# Altium footprint library Componentes.PcbLib: 31 footprints (part 1 of 2)
Each footprint in its own frame and in the unit in brackets; x right, y up, seen from the top. Pads: shape width x height; smd on the part's side, far side on the other; paste and mask are expansions set on the pad; w line width, h text height; cw(c..) or ccw(c..) is an arc to the next point about the centre after c.
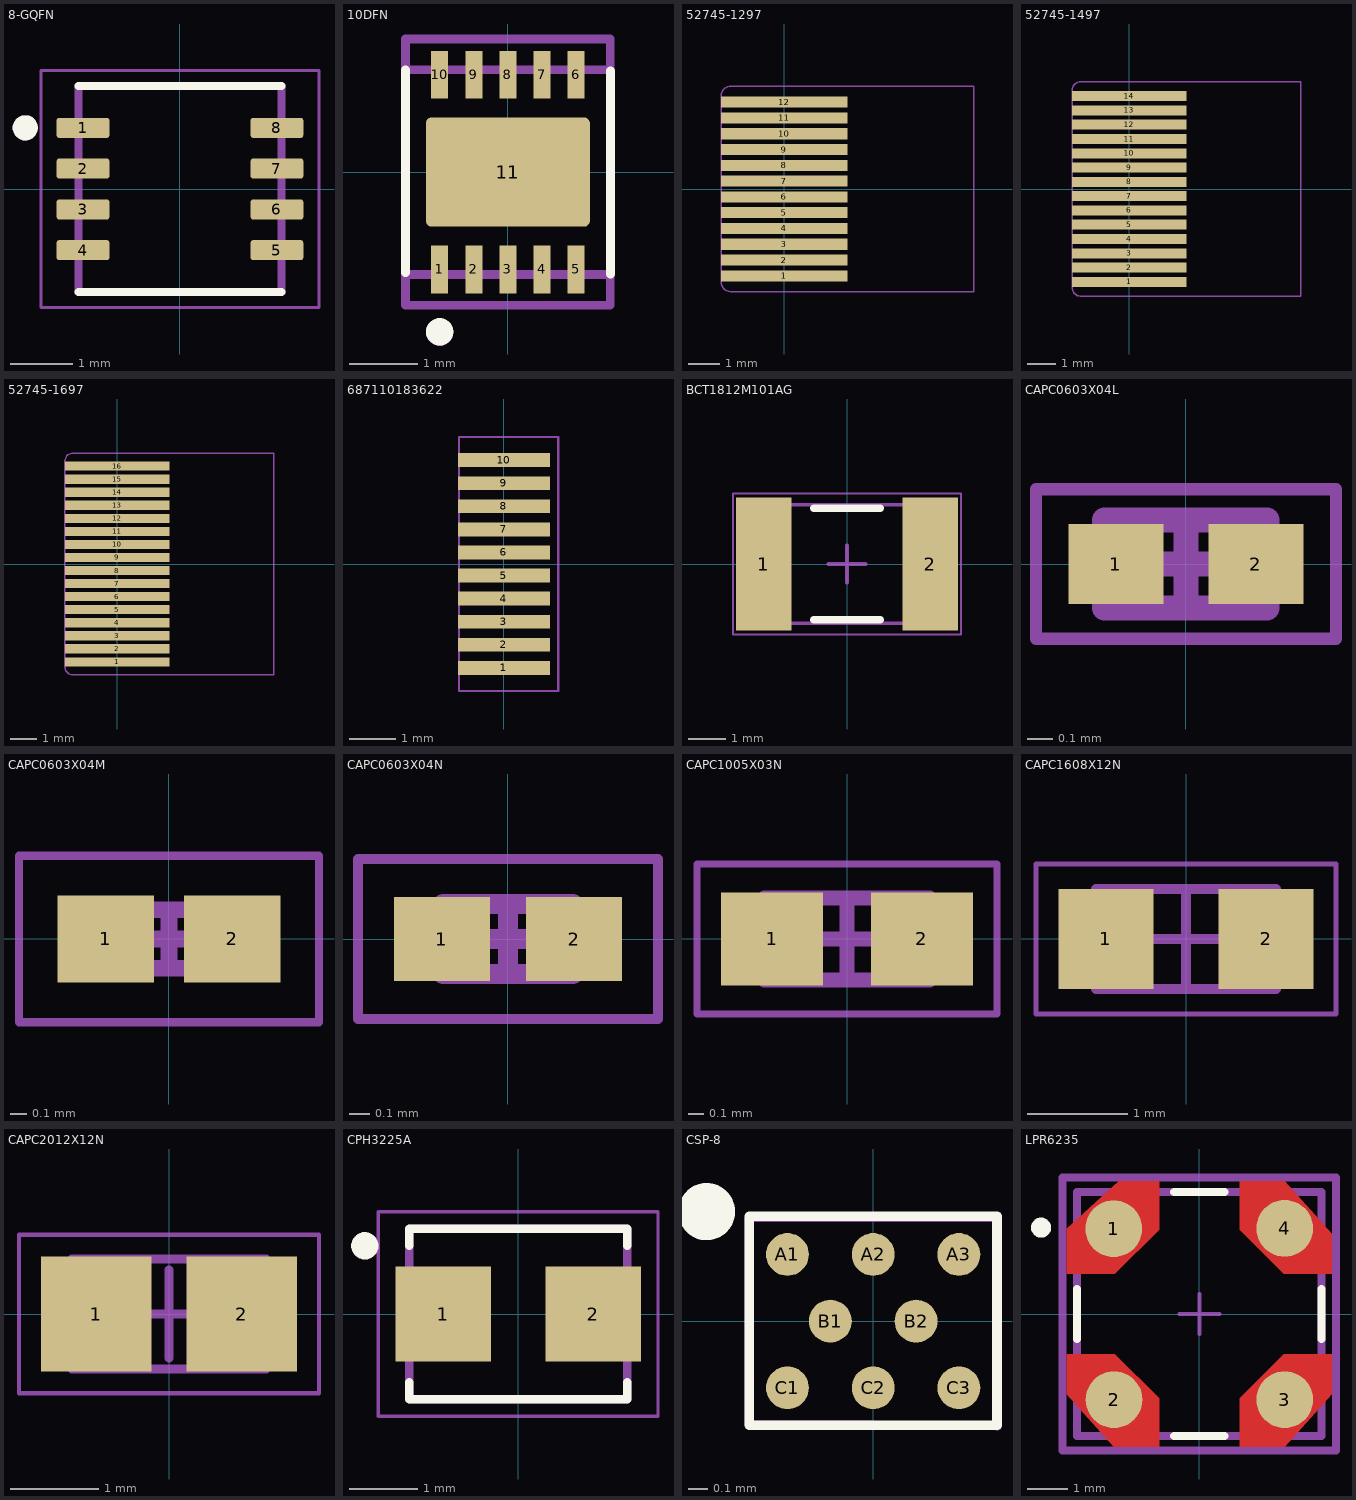
[diagram p0: the footprints below, top view; thin cyan lines are the x and y axes]

## 8-GQFN [mm] "8-pin GQFN (3.23 × 3.28 × 0.55 mm)"
pads (8):
  rrect25% 0.84x0.32 smd: 1(-1.545,0.975) 2(-1.545,0.325) 3(-1.545,-0.325) 4(-1.545,-0.975) 5(1.545,-0.975) 6(1.545,-0.325) 7(1.545,0.325) 8(1.545,0.975)
Top Overlay:
  circle w0.2: c-2.465,0.975 r0.1
  lines w0.127: -1.615,-1.64 1.615,-1.64 ; -1.615,1.64 1.615,1.64
Mechanical 13:
  circle w0.2: c-2.465,0.975 r0.1
  lines w0.127: -1.615,-1.64 1.615,-1.64 1.615,1.64 -1.615,1.64 -1.615,-1.64
Mechanical 15:
  lines w0.05: -2.215,-1.89 2.215,-1.89 2.215,1.89 -2.215,1.89 -2.215,-1.89
3D body "8-GQFN v8.step": height 0.6, standoff 0, extent -1.615,-1.69 1.615,1.69

## 10DFN [mm] "10-lead, 3mm × 3mm DFN"
height 0.75
pads (11):
  rect 0.25x0.7 smd: 1(-1,-1.425) 2(-0.5,-1.425) 3(0,-1.425) 4(0.5,-1.425) 5(1,-1.425) 6(1,1.425) 7(0.5,1.425) 8(0,1.425) 9(-0.5,1.425) 10(-1,1.425)
  rrect10% 2.4x1.6 smd: 11(0,0)
Top Overlay:
  circle w0.2: c-1,-2.34 r0.1
  lines w0.127: -1.5,-1.475 -1.5,1.5 ; 1.503,-1.494 1.503,1.481
Mechanical 13:
  circle w0.2: c-1,-2.345 r0.1
  lines w0.127: -1.5,-1.5 1.5,-1.5 1.5,1.5 -1.5,1.5 -1.5,-1.5
Mechanical 15:
  lines w0.127: -1.5,-1.95 1.5,-1.95 1.5,1.95 -1.5,1.95 -1.5,-1.95
3D body "MCRY12-DFN10.step": height 0.8, standoff 0, extent -1.5,-1.52 1.5,1.52

## 52745-1297 [mm] "Cable Side"
pads (12):
  rect 4x0.35 smd paste-2: 1(0,-2.75) 2(0,-2.25) 3(0,-1.75) 4(0,-1.25) 5(0,-0.75) 6(0,-0.25) 7(0,0.25) 8(0,0.75) 9(0,1.25) 10(0,1.75) 11(0,2.25) 12(0,2.75)
Top Solder:
  rectangle: -2.025,-3.25 2,3.275
Mechanical 15:
  lines w0.05: -2,2.941 -2,-2.941 ccw(c-1.7,-2.95) -1.709,-3.25 6,-3.25 6,3.25 -1.691,3.25 ccw(c-1.7,2.95) -2,2.959

## 52745-1497 [mm] "Cable Side"
pads (14):
  rect 4x0.35 smd paste-2: 1(0,-3.25) 2(0,-2.75) 3(0,-2.25) 4(0,-1.75) 5(0,-1.25) 6(0,-0.75) 7(0,-0.25) 8(0,0.25) 9(0,0.75) 10(0,1.25) 11(0,1.75) 12(0,2.25) 13(0,2.75) 14(0,3.25)
Top Solder:
  rectangle: -2.025,-3.75 2,3.75
Mechanical 15:
  lines w0.05: -2,-3.441 ccw(c-1.7,-3.45) -1.709,-3.75 6,-3.75 6,3.75 -1.691,3.75 ccw(c-1.7,3.45) -2,3.459 -2,-3.441

## 52745-1697 [mm] "Cable Side"
pads (16):
  rect 4x0.35 smd paste-2: 1(0,-3.75) 2(0,-3.25) 3(0,-2.75) 4(0,-2.25) 5(0,-1.75) 6(0,-1.25) 7(0,-0.75) 8(0,-0.25) 9(0,0.25) 10(0,0.75) 11(0,1.25) 12(0,1.75) 13(0,2.25) 14(0,2.75) 15(0,3.25) 16(0,3.75)
Top Solder:
  rectangle: -2.025,-4.25 2,4.3
Mechanical 15:
  lines w0.05: -2,-3.941 ccw(c-1.7,-3.95) -1.709,-4.25 6,-4.25 6,4.25 -1.691,4.25 ccw(c-1.7,3.95) -2,3.959 -2,-3.941

## 687110183622 [mm] "Cable Side"
pads (10):
  rect 2x0.3 smd paste-2: 1(0,-2.25) 2(0,-1.75) 3(0,-1.25) 4(0,-0.75) 5(0,-0.25) 6(0,0.25) 7(0,0.75) 8(0,1.25) 9(0,1.75) 10(0,2.25)
Top Solder:
  rectangle: -0.975,-2.75 1.1,2.75
Mechanical 15:
  lines w0.05: -0.975,-2.75 1.175,-2.75 1.175,2.75 -0.975,2.75 -0.975,-2.75

## BCT1812M101AG [mm] "Ceramic Chip Capacitor"
height 1.1
pads (2):
  rect 1.5x3.6 smd: 1(-2.25,0) 2(2.25,0)
Top Overlay:
  lines w0.2: -0.9,-1.5 0.9,-1.5 ; -0.9,1.5 0.9,1.5
Top Courtyard:
  lines w0.05: -3.075,-1.9 3.075,-1.9 3.075,1.9 -3.075,1.9 -3.075,-1.9
  lines w0.1: -0.5,0 0.5,0 ; 0,-0.5 0,0.5
Top Assembly:
  lines w0.1: -2.3,-1.6 2.3,-1.6 2.3,1.6 -2.3,1.6 -2.3,-1.6
3D body: height 1.1, standoff 0, extent 1.5,-1.6 2.3,1.6
3D body: height 1.1, standoff 0, extent -2.3,-1.6 -1.5,1.6
3D body: height 1.1, standoff 0, extent -1.5,-1.6 1.5,1.6

## CAPC0603X04L [mm] "Chip Capacitor, 2-Leads, Body 0,60x0,30mm, IPC High Density"
height 0.35
pads (2):
  rect 0.38x0.32 smd: 1(-0.28,0) 2(0.28,0)
Mechanical 13:
  lines w0.1: -0.325,-0.175 0.325,-0.175 0.325,0.175 -0.325,0.175 -0.325,-0.175
Mechanical 15:
  lines w0.05: -0.6,-0.3 0.6,-0.3 0.6,0.3 -0.6,0.3 -0.6,-0.3
  lines w0.1: -0.175,0 0.175,0 ; 0,-0.175 0,0.175
3D body: height 0.35, standoff 0, extent 0.195,-0.175 0.325,0.175
3D body: height 0.35, standoff 0, extent -0.325,-0.175 -0.195,0.175
3D body: height 0.35, standoff 0, extent -0.195,-0.175 0.195,0.175

## CAPC0603X04M [mm] "Chip Capacitor, 2-Leads, Body 0,60x0,30mm, IPC Low Density"
height 0.35
pads (2):
  rect 0.58x0.52 smd: 1(-0.38,0) 2(0.38,0)
Mechanical 13:
  lines w0.1: -0.325,-0.175 -0.325,0.175 0.325,0.175 0.325,-0.175 -0.325,-0.175
Mechanical 15:
  lines w0.05: -0.9,-0.5 -0.9,0.5 0.9,0.5 0.9,-0.5 -0.9,-0.5
  lines w0.1: -0.175,0 0.175,0 ; 0,-0.175 0,0.175
3D body: height 0.35, standoff 0, extent -0.195,-0.175 0.195,0.175
3D body: height 0.35, standoff 0, extent -0.325,-0.175 -0.195,0.175
3D body: height 0.35, standoff 0, extent 0.195,-0.175 0.325,0.175

## CAPC0603X04N [mm] "Chip Capacitor, 2-Leads, Body 0,60x0,30mm, IPC Medium Density"
height 0.35
pads (2):
  rect 0.48x0.42 smd: 1(-0.33,0) 2(0.33,0)
Mechanical 13:
  lines w0.1: -0.325,-0.175 0.325,-0.175 0.325,0.175 -0.325,0.175 -0.325,-0.175
Mechanical 15:
  lines w0.05: -0.75,-0.4 0.75,-0.4 0.75,0.4 -0.75,0.4 -0.75,-0.4
  lines w0.1: -0.175,0 0.175,0 ; 0,-0.175 0,0.175
3D body: height 0.35, standoff 0, extent 0.195,-0.175 0.325,0.175
3D body: height 0.35, standoff 0, extent -0.325,-0.175 -0.195,0.175
3D body: height 0.35, standoff 0, extent -0.195,-0.175 0.195,0.175

## CAPC1005X03N [mm] "Chip Capacitor, 2-Leads, Body 1,00x0,50mm, IPC Medium Density"
height 0.3
pads (2):
  rect 0.68x0.62 smd: 1(-0.5,0) 2(0.5,0)
Mechanical 13:
  lines w0.1: -0.55,-0.275 0.55,-0.275 0.55,0.275 -0.55,0.275 -0.55,-0.275
Mechanical 15:
  lines w0.05: -1,-0.5 1,-0.5 1,0.5 -1,0.5 -1,-0.5
  lines w0.1: -0.275,0 0.275,0 ; 0,-0.275 0,0.275
3D body: height 0.3, standoff 0, extent 0.3,-0.275 0.55,0.275
3D body: height 0.3, standoff 0, extent -0.55,-0.275 -0.3,0.275
3D body: height 0.3, standoff 0, extent -0.3,-0.275 0.3,0.275

## CAPC1608X12N [mm] "Chip Capacitor, 2-Leads, Body 1,60x0,80mm, IPC Medium Density"
height 1.2
pads (2):
  rect 0.95x1 smd: 1(-0.8,0) 2(0.8,0)
Mechanical 13:
  lines w0.1: -0.9,-0.5 0.9,-0.5 0.9,0.5 -0.9,0.5 -0.9,-0.5
Mechanical 15:
  lines w0.05: -1.5,-0.75 1.5,-0.75 1.5,0.75 -1.5,0.75 -1.5,-0.75
  lines w0.1: -0.5,0 0.5,0 ; 0,-0.5 0,0.5
3D body: height 1.2, standoff 0, extent 0.55,-0.5 0.9,0.5
3D body: height 1.2, standoff 0, extent -0.9,-0.5 -0.55,0.5
3D body: height 1.2, standoff 0, extent -0.55,-0.5 0.55,0.5

## CAPC2012X12N [mm] "Chip Capacitor, 2-Leads, Body 2,00x1,15mm, IPC Medium Density"
height 1.25
pads (2):
  rect 1.25x1.3 smd: 1(-0.825,0) 2(0.825,0)
Top Courtyard:
  lines w0.05: -1.7,-0.9 -1.7,0.9 1.7,0.9 1.7,-0.9 -1.7,-0.9
  lines w0.1: -0.5,0 0.5,0 ; 0,-0.5 0,0.5
Top Assembly:
  lines w0.1: -1.1,-0.625 -1.1,0.625 1.1,0.625 1.1,-0.625 -1.1,-0.625
3D body: height 1.25, standoff 0, extent -0.65,-0.625 0.65,0.625
3D body: height 1.25, standoff 0, extent -1.1,-0.625 -0.65,0.625
3D body: height 1.25, standoff 0, extent 0.65,-0.625 1.1,0.625

## CPH3225A [mm]
pads (2):
  rect 1.4x1.4 smd: 1(-1.1,0) 2(1.1,0)
Top Overlay:
  circle w0.2: c-2.25,1 r0.1
  lines w0.127: -1.6,-1 -1.6,-1.25 1.6,-1.25 1.6,-1 ; -1.6,1 -1.6,1.25 1.6,1.25 1.6,1
Mechanical 13:
  lines w0.127: -1.6,-1.25 1.6,-1.25 1.6,1.25 -1.6,1.25 -1.6,-1.25
Mechanical 15:
  lines w0.05: -2.05,-1.5 2.05,-1.5 2.05,1.5 -2.05,1.5 -2.05,-1.5
3D body "CPH3225A--3DModel-STEP-56544.STEP": height 1, standoff 0, extent -1.6,-1.25 1.6,1.25

## CSP-8 [mm]
pads (8):
  round 0.225 smd mask+0: A1(-0.45,0.35) A2(0,0.35) A3(0.45,0.35) B1(-0.225,0) B2(0.225,0) C1(-0.45,-0.35) C2(0,-0.35) C3(0.45,-0.35)
Top Overlay:
  circle w0.2: c-0.875,0.575 r0.05
  lines w0.05: -0.65,-0.547 0.65,-0.547 0.65,0.55 -0.65,0.55 -0.65,-0.547
Top Solder:
  circle w0: c-0.45,0.35 r0.145
  circle w0: c-0.225,0 r0.145
  circle w0: c-0.45,-0.35 r0.145
  circle w0: c0,0.35 r0.145
  circle w0: c0.225,0 r0.145
  circle w0: c0,-0.35 r0.145
  circle w0: c0.45,0.35 r0.145
  circle w0: c0.45,-0.35 r0.145
Mechanical 15:
  lines w0.05: -0.65,0.54 -0.65,-0.545 0.65,-0.55 0.65,0.545 -0.645,0.545

## LPR6235 [mm] "Coupled Inductors"
height 3.5
pads (4):
  round 1.413 smd paste+0 mask+0: 1(-2.131,2.123) 2(-2.123,-2.131) 3(2.123,-2.131) 4(2.123,2.131)
Top Layer:
  region: -3.3,-1 -2.1,-1 -1,-2.1 -1,-3.3 -2.125,-3.3 -3.3,-2
  region: 3.3,-1 2.1,-1 1,-2.1 1,-3.3 2.125,-3.3 3.3,-2
  region: 3.3,1 2.1,1 1,2.1 1,3.3 2.125,3.3 3.3,2
  region: -1,3.3 -1,2.1 -2.1,1 -3.3,1 -3.3,2.125 -2,3.3
Top Overlay:
  circle w0.25: c-3.94,2.15 r0.125
  lines w0.2: -3.04,-0.625 -3.04,0.625 ; -0.625,-3.04 0.625,-3.04 ; -0.625,3.04 0.625,3.04 ; 3.04,-0.625 3.04,0.625
Top 3D Body:
  lines w0.2: -3.04,-3.04 -3.04,3.04 3.04,3.04 3.04,-3.04 -3.04,-3.04
Board:
  lines w0.2: -3.4,-3.4 -3.4,3.4 3.4,3.4 3.4,-3.4 -3.4,-3.4
Top Assembly:
  lines w0.2: -3.4,-3.4 -3.4,3.4 3.4,3.4 3.4,-3.4 -3.4,-3.4
Top Component Center:
  lines w0.1: -0.5,0 0.5,0 ; 0,-0.5 0,0.5
3D body "Trans_Coilcraft_LPR6235-253LMLB_eec.STEP": height 0.25, standoff 0, extent -3.4,-3.4 3.4,3.4